# Altium schematic symbol library ConverterDCtoDC.SchLib: 2 symbols
Pins are listed as number, name and electrical type; pins without a type are passive.

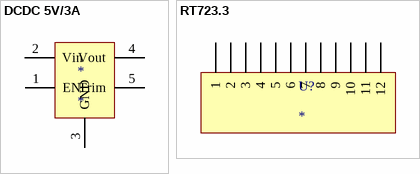
[diagram p0: symbols DCDC 5V/3A to RT723.3]

## DCDC 5V/3A
designator *
footprint OKR
pins: 1 EN, 2 Vin, 3 GND, 4 Vout, 5 Trim

## RT723.3
designator U?
Conversor DC/DC salida 3.3V
footprint R-723.3P
pins: 1, 2, 3, 4, 5, 6, 7, 8, 9, 10, 11, 12